# Altium footprint library JRB.PcbLib: 2 footprints
Each footprint in its own frame and in the unit in brackets; x right, y up, seen from the top. Pads: shape width x height; smd on the part's side, far side on the other; paste and mask are expansions set on the pad; w line width, h text height; cw(c..) or ccw(c..) is an arc to the next point about the centre after c.
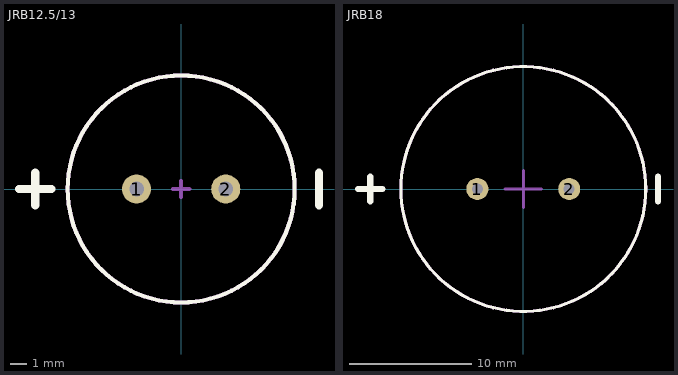
[diagram p0: the footprints below, top view; thin cyan lines are the x and y axes]

## JRB12.5/13 [mm]
pads (2):
  round 1.8 hole 0.9: 1(-2.75,0) 2(2.75,0)
Top Overlay:
  circle w0.254: c0,0 r7
  lines w0.5: -10,0 -8,0 ; -9,-1 -9,1 ; 8.5,-1 8.5,1
Assembly:
  circle w0.254: c0,0 r7
Mechanical 15:
  circle w0.254: c0,0 r7
  lines w0.254: -0.5,0 0.5,0 ; 0,-0.5 0,0.5
3D body "JRB12.5(13).step": height 20.5, standoff -5, extent -7,-7 7,7

## JRB18 [mm]
pads (2):
  round 1.8 hole 0.9: 1(-3.75,0) 2(3.75,0)
Top Overlay:
  circle w0.254: c0,0 r10
  lines w0.5: -13.5,0 -11.5,0 ; -12.5,-1 -12.5,1 ; 11,-1 11,1
Assembly:
  circle w0.254: c0,0 r10
Mechanical 15:
  circle w0.254: c0,0 r10
  lines w0.254: -1.5,0 1.5,0 ; 0,-1.5 0,1.5
3D body "JRB18.step": height 30.5, standoff -5, extent -9.5,-9.498 9.5,9.498